# Altium footprint library XI6432BRQAAMY.PcbLib: 1 footprints
Each footprint in its own frame and in the unit in brackets; x right, y up, seen from the top. Pads: shape width x height; smd on the part's side, far side on the other; paste and mask are expansions set on the pad; w line width, h text height; cw(c..) or ccw(c..) is an arc to the next point about the centre after c.
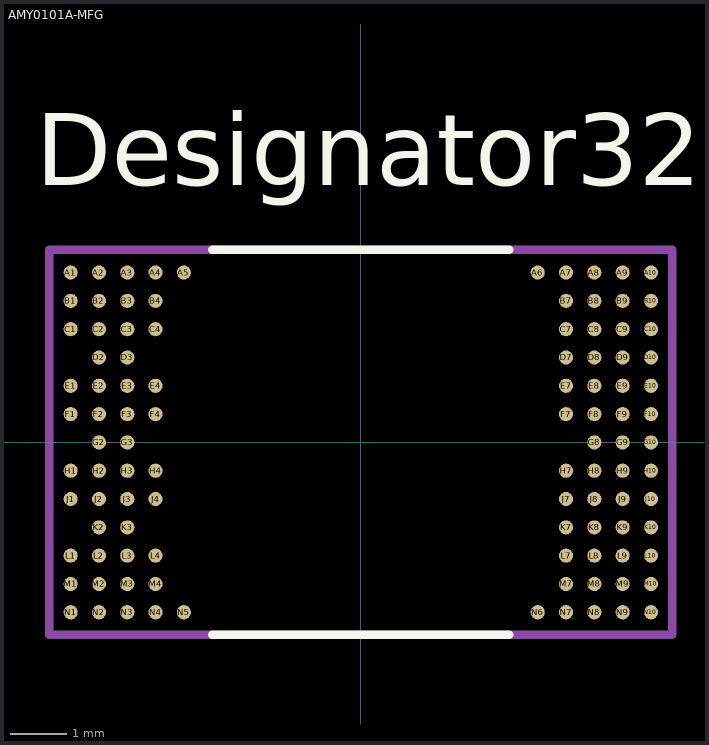
[diagram p0: the footprint, top view; thin cyan lines are the x and y axes]

## AMY0101A-MFG [mm]
pads (101):
  round 0.25 smd paste+0 mask+0.051: A1(-5.125,3) A2(-4.625,3) A3(-4.125,3) A4(-3.625,3) A5(-3.125,3) A6(3.125,3) A7(3.625,3) A8(4.125,3) A9(4.625,3) A10(5.125,3) B1(-5.125,2.5) B2(-4.625,2.5) B3(-4.125,2.5) B4(-3.625,2.5) B7(3.625,2.5) B8(4.125,2.5) B9(4.625,2.5) B10(5.125,2.5) C1(-5.125,2) C2(-4.625,2) C3(-4.125,2) C4(-3.625,2) C7(3.625,2) C8(4.125,2) C9(4.625,2) C10(5.125,2) D2(-4.625,1.5) D3(-4.125,1.5) D7(3.625,1.5) D8(4.125,1.5) D9(4.625,1.5) D10(5.125,1.5) E1(-5.125,1) E2(-4.625,1) E3(-4.125,1) E4(-3.625,1) E7(3.625,1) E8(4.125,1) E9(4.625,1) E10(5.125,1) F1(-5.125,0.5) F2(-4.625,0.5) F3(-4.125,0.5) F4(-3.625,0.5) F7(3.625,0.5) F8(4.125,0.5) F9(4.625,0.5) F10(5.125,0.5) G2(-4.625,0) G3(-4.125,0) G8(4.125,0) G9(4.625,0) G10(5.125,0) H1(-5.125,-0.5) H2(-4.625,-0.5) H3(-4.125,-0.5) H4(-3.625,-0.5) H7(3.625,-0.5) H8(4.125,-0.5) H9(4.625,-0.5) H10(5.125,-0.5) J1(-5.125,-1) J2(-4.625,-1) J3(-4.125,-1) J4(-3.625,-1) J7(3.625,-1) J8(4.125,-1) J9(4.625,-1) J10(5.125,-1) K2(-4.625,-1.5) K3(-4.125,-1.5) K7(3.625,-1.5) K8(4.125,-1.5) K9(4.625,-1.5) K10(5.125,-1.5) L1(-5.125,-2) L2(-4.625,-2) L3(-4.125,-2) L4(-3.625,-2) L7(3.625,-2) L8(4.125,-2) L9(4.625,-2) L10(5.125,-2) M1(-5.125,-2.5) M2(-4.625,-2.5) M3(-4.125,-2.5) M4(-3.625,-2.5) M7(3.625,-2.5) M8(4.125,-2.5) M9(4.625,-2.5) M10(5.125,-2.5) N1(-5.125,-3) N2(-4.625,-3) N3(-4.125,-3) N4(-3.625,-3) N5(-3.125,-3) N6(3.125,-3) N7(3.625,-3) N8(4.125,-3) N9(4.625,-3) N10(5.125,-3)
Top Overlay:
  lines w0.15: -2.625,-3.4 2.625,-3.4 ; -2.625,3.4 2.625,3.4
  text ".Designator" at -3.492,-0.635 h1.27
  text "Designator327" at -5.74,4.547 h1.27
Mechanical 13:
  lines w0.15: -5.5,-3.4 -5.5,3.4 5.5,3.4 5.5,-3.4 -5.5,-3.4
  text ".Designator" at -3.492,-0.635 h1.27